# EAGLE library part ENCODER (library ijrobotics)
Encoder Encoder MR Type ML, 128–1000 CPT, 3 Channels, with Line Driver
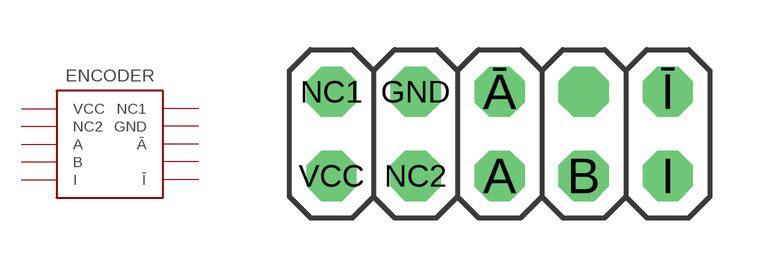
[diagram p7: symbol with the pads of 2X05; footprint 2X05]

Designator prefix -

## ENCODER  [2X05]
A  A
B  B
GND  GND
I  I
NC1  NC1
NC2  NC2
VCC  VCC
Ā  Ā
Ī  Ī
Ḃ  Ḃ

## Footprint 2X05 (pad centres in mm)
PIN HEADER
drill 1.016 octagon: A 0,-1.27; B 2.54,-1.27; GND -2.54,1.27; I 5.08,-1.27; NC1 -5.08,1.27; NC2 -2.54,-1.27; VCC -5.08,-1.27; Ā 0,1.27; Ī 5.08,1.27; Ḃ 2.54,1.27